# Altium footprint library GOSTOpto.PcbLib: 8 footprints
Each footprint in its own frame and in the unit in brackets; x right, y up, seen from the top. Pads: shape width x height; smd on the part's side, far side on the other; paste and mask are expansions set on the pad; w line width, h text height; cw(c..) or ccw(c..) is an arc to the next point about the centre after c.
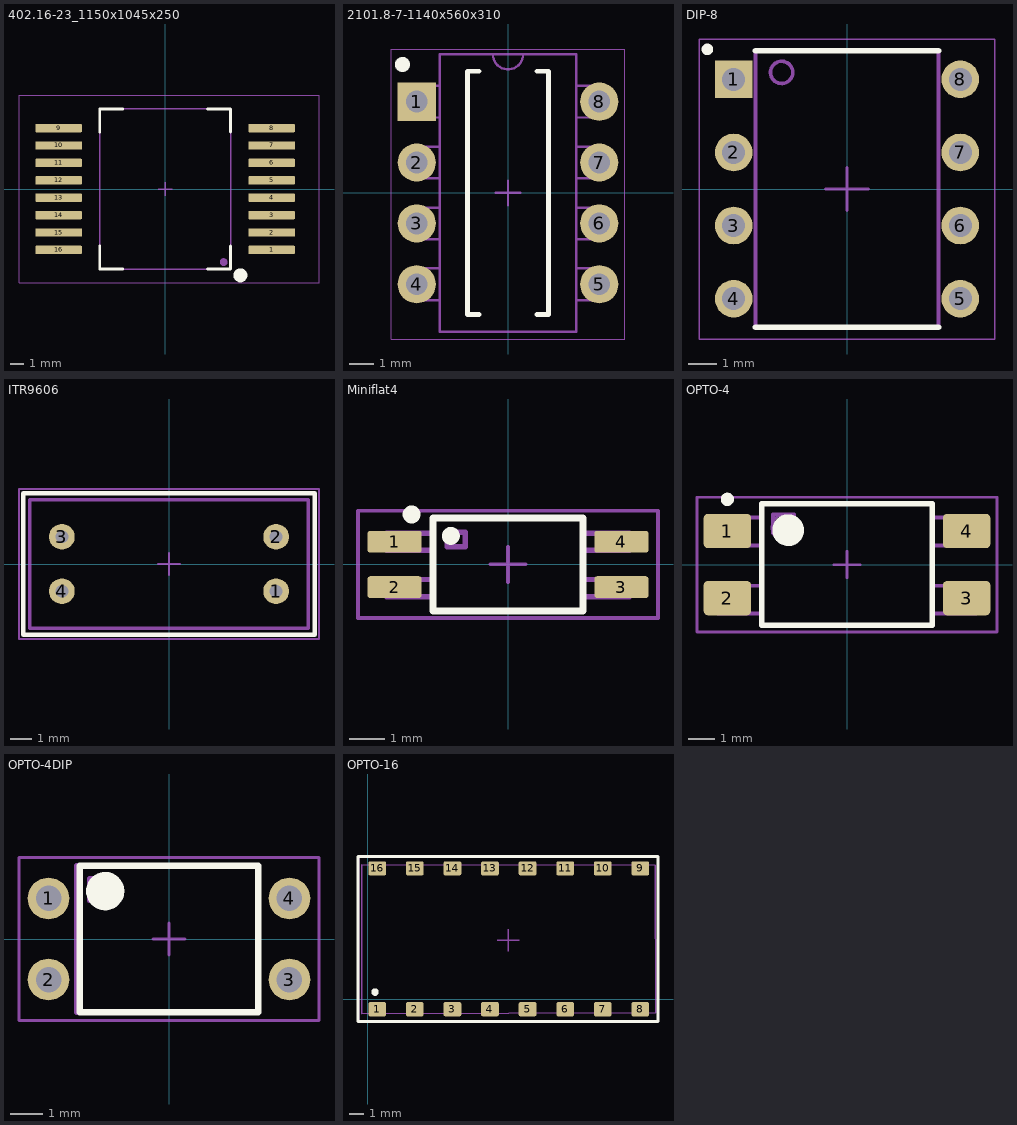
[diagram p0: the footprints below, top view; thin cyan lines are the x and y axes]

## 402.16-23_1150x1045x250 [mm]
height 2.5
pads (16):
  rrect25% 3.35x0.6 smd paste-0.025 mask+0.1: 1(7.65,-4.375) 2(7.65,-3.125) 3(7.65,-1.875) 4(7.65,-0.625) 5(7.65,0.625) 6(7.65,1.875) 7(7.65,3.125) 8(7.65,4.375) 9(-7.65,4.375) 10(-7.65,3.125) 11(-7.65,1.875) 12(-7.65,0.625) 13(-7.65,-0.625) 14(-7.65,-1.875) 15(-7.65,-3.125) 16(-7.65,-4.375)
Top Overlay:
  circle w0.6: c5.4,-6.2 r0.2
  lines w0.2: -4.7,-4.099 -4.7,-5.75 -3.049,-5.75 ; -4.7,4.099 -4.7,5.75 -3.049,5.75 ; 3.049,-5.75 4.7,-5.75 4.7,-4.099 ; 3.049,5.75 4.7,5.75 4.7,4.099
Mechanical 6:
  text ".Comment" at -1.551,-0.539 h1.2
Mechanical 9:
  text ".Designator" at -2.112,0.442 h1.5
Mechanical 11:
  circle w0.3: c4.2,-5.25 r0.127
  lines w0.1: -4.7,-5.75 4.7,-5.75 4.7,5.75 -4.7,5.75 -4.7,-5.75
Mechanical 15:
  lines w0.05: -10.5,-6.75 11.049,-6.75 11.049,6.75 -10.5,6.75 -10.5,-6.75
  lines w0.1: -0.5,0 0.5,0 ; 0,-0.5 0,0.5
3D body "User Library-402_16.STEP": height 2.51, standoff 0, extent -7.25,-5.75 7.25,5.75

## 2101.8-7-1140x560x310 [mm]
height 3.1
pads (8):
  rect 1.57x1.57 hole 0.9: 1(-3.75,3.75)
  round 1.57 hole 0.9: 2(-3.75,1.25) 3(-3.75,-1.25) 4(-3.75,-3.75) 5(3.75,-3.75) 6(3.75,-1.25) 7(3.75,1.25) 8(3.75,3.75)
Top Overlay:
  circle w0.6: c-4.34,5.279 r0.01
  lines w0.2: -1.199,-5 -1.665,-5 -1.665,5 -1.199,5 ; 1.199,-5 1.665,-5 1.665,5 1.199,5
Mechanical 6:
  text ".Comment" at 1.016,-1.651 h1.2
Mechanical 9:
  text ".Designator" at -0.381,-2.286 h1.5
Mechanical 11:
  lines w0.1: -2.8,-4.4 -3.9,-4.4 -3.9,-3.1 -2.8,-3.1 ; -2.8,-1.9 -3.9,-1.9 -3.9,-0.6 -2.8,-0.6 ; -2.8,0.6 -3.9,0.6 -3.9,1.9 -2.8,1.9 ; -2.8,3.1 -3.9,3.1 -3.9,4.4 -2.8,4.4 ; -0.625,5.7 ccw(c0,5.7) 0.625,5.7 ; 2.8,-4.4 3.9,-4.4 3.9,-3.1 2.8,-3.1 ; 2.8,-1.9 3.9,-1.9 3.9,-0.6 2.8,-0.6 ; 2.8,0.6 3.9,0.6 3.9,1.9 2.8,1.9 ; 2.8,3.1 3.9,3.1 3.9,4.4 2.8,4.4 ; -2.8,-5.7 2.8,-5.7 2.8,5.7 -2.8,5.7 -2.8,-5.7
Mechanical 15:
  lines w0.05: -4.8,-6 4.8,-6 4.8,5.9 -4.8,5.9 -4.8,-6
  lines w0.1: -0.5,0 0.5,0 ; 0,-0.5 0,0.5
3D body "User Library-2101_8-7.step": height 5, standoff -2.2, extent -3.91,-4.925 3.91,5.075

## DIP-8 [mm]
pads (8):
  rect 1.308x1.308 hole 0.8: 1(-3.935,3.81)
  round 1.308 hole 0.8: 2(-3.935,1.27) 3(-3.935,-1.27) 4(-3.935,-3.81) 5(3.935,-3.81) 6(3.935,-1.27) 7(3.935,1.27) 8(3.935,3.81)
Top Overlay:
  circle w0.2: c-4.85,4.85 r0.1
  lines w0.2: -3.18,-4.8 3.18,-4.8 ; -3.18,4.8 3.18,4.8
Mechanical 7:
  circle w0.127: c-2.27,4.05 r0.386
  lines w0.127: -3.18,-4.8 -3.18,4.8 ; 3.18,-4.8 3.18,4.8
Mechanical 9:
  text ".Designator" at -4.5,6.5 h3
Mechanical 10:
  text ".Comment" at -2.5,-7 h2
Mechanical 15:
  lines w0.05: -5.13,-5.21 5.13,-5.21 5.13,5.21 -5.13,5.21 -5.13,-5.21
  lines w0.1: -0.75,0 0.75,0 ; 0,-0.75 0,0.75
3D body "User Library-DIP-8-1.step": height 4.36, standoff -3, extent -3.935,-4.7 3.935,4.7

## ITR9606 [mm]
height 3.7
pads (4):
  round 1.2 hole 0.6: 1(5,-1.27) 2(5,1.27) 3(-5,1.27) 4(-5,-1.27)
Top Overlay:
  lines w0.2: -6.8,-3.3 -6.8,3.3 6.8,3.3 6.8,-3.3 -6.8,-3.3
Mechanical 7:
  lines w0.15: -6.5,-3 -6.5,3 6.5,3 6.5,-3 -6.5,-3
Mechanical 9:
  text ".Designator" at -5.1,4.2 h3
Mechanical 10:
  text ".Comment" at -3.6,-5.1 h2
Mechanical 15:
  lines w0.1: -0.5,0 0.5,0 ; 0,-0.5 0,0.5 ; -7,-3.5 -7,3.5 7,3.5 7,-3.5 -7,-3.5
3D body "ITR9606.STEP": height 10, standoff -10, extent -6.475,-3.025 6.525,2.975

## Miniflat4 [mm] "SOP, 4-Leads, Body 4,58x6,50mm, Pitch 2,54mm, IPC Medium Density"
height 3.7
pads (4):
  rrect25% 1.52x0.61 smd: 1(-3.175,0.635) 2(-3.175,-0.635) 3(3.175,-0.635) 4(3.175,0.635)
Top Overlay:
  circle w0.25: c-2.7,1.4 r0.125
  circle w0.25: c-1.6,0.8 r0.125
  lines w0.2: -2.1,-1.3 2.1,-1.3 2.1,1.3 -2.1,1.3 -2.1,-1.3
Mechanical 7:
  lines w0.15: -2.1,-0.9 -3.4,-0.9 -3.4,-0.422 -2.091,-0.422 ; -2.1,0.4 -3.4,0.4 -3.4,0.878 -2.091,0.878 ; 2.091,-0.422 3.4,-0.422 3.4,-0.9 2.1,-0.9 ; 2.091,0.878 3.4,0.878 3.4,0.4 2.1,0.4 ; -2.1,-1.3 2.1,-1.3 2.1,1.3 -2.1,1.3 -2.1,-1.3 ; -1.7,0.5 -1.7,0.9 -1.2,0.9 -1.2,0.5 -1.7,0.5
Mechanical 9:
  text ".Designator" at -4.826,3.302 h3
Mechanical 10:
  text ".Comment" at -2.921,-4.191 h2
Mechanical 15:
  lines w0.1: -0.5,0 0.5,0 ; 0,-0.5 0,0.5 ; -4.2,-1.5 4.2,-1.5 4.2,1.5 -4.2,1.5 -4.2,-1.5
3D body "User Library-ACPL-217.step": height 2.1, standoff -0.02, extent -3.475,-1.325 3.525,1.275

## OPTO-4 [mm] "SOP, 4-Leads, Body 4,58x6,50mm, Pitch 2,54mm, IPC Medium Density"
height 3.7
pads (4):
  rrect25% 1.8x1.3 smd: 1(-4.525,1.27) 2(-4.525,-1.27) 3(4.525,-1.27) 4(4.525,1.27)
Top Overlay:
  circle w0.25: c-4.525,2.47 r0.125
  circle w0.6: c-2.225,1.3 r0.3
  lines w0.2: -3.225,-2.3 -3.225,2.3 3.225,2.3 3.225,-2.3 -3.225,-2.3
Mechanical 7:
  lines w0.15: -3.225,-1.856 -4.878,-1.856 -4.878,-0.8 -3.216,-0.8 ; -3.225,0.722 -4.878,0.722 -4.878,1.778 -3.216,1.778 ; 3.216,-0.8 4.878,-0.8 4.878,-1.856 3.225,-1.856 ; 3.216,1.778 4.878,1.778 4.878,0.722 3.225,0.722 ; -3.216,-2.3 -3.216,2.3 3.225,2.3 3.225,-2.3 -3.216,-2.3 ; -2.8,1.2 -2,1.2 -2,1.9 -2.8,1.9 -2.8,1.2
Mechanical 9:
  text ".Designator" at -4.826,3.302 h3
Mechanical 10:
  text ".Comment" at -2.921,-4.191 h2
Mechanical 11:
  circle w0.1: c-2.35,1.4 r0.5
  lines w0.1: -3.25,-2.3 -3.25,2.3 3.25,2.3 3.25,-2.3 -3.25,-2.3
Mechanical 15:
  lines w0.1: -0.5,0 0.5,0 ; 0,-0.5 0,0.5 ; -5.675,-2.55 -5.675,2.55 5.675,2.55 5.675,-2.55 -5.675,-2.55
3D body "User Library-KB817-B.STEP": height 3.75, standoff -0.07, extent -4.915,-2.315 4.965,2.265

## OPTO-4DIP [mm] "SOP, 4-Leads, Body 4,58x6,50mm, Pitch 2,54mm, IPC Medium Density"
height 3.7
pads (4):
  round 1.308 hole 0.8: 1(-3.775,1.27) 2(-3.775,-1.27) 3(3.775,-1.27) 4(3.775,1.27)
Top Overlay:
  circle w0.6: c-2,1.5 r0.3
  lines w0.2: -2.8,-2.3 -2.8,2.3 2.8,2.3 2.8,-2.3 -2.8,-2.3
Mechanical 7:
  lines w0.15: -2.9,-2.3 -2.9,2.3 2.8,2.3 2.8,-2.3 -2.9,-2.3 ; -2.5,1.2 -1.7,1.2 -1.7,1.9 -2.5,1.9 -2.5,1.2
Mechanical 9:
  text ".Designator" at -4.826,3.302 h3
Mechanical 10:
  text ".Comment" at -2.921,-4.191 h2
Mechanical 15:
  lines w0.1: -0.5,0 0.5,0 ; 0,-0.5 0,0.5 ; -4.7,-2.55 -4.7,2.55 4.7,2.55 4.7,-2.55 -4.7,-2.55
3D body "User Library-DIP-4.step": height 4.8, standoff -2.5, extent -3.931,-2.28 3.94,2.3

## OPTO-16 [mm]
pads (16):
  rrect25% 1.2x0.96 smd: 1(0.651,-0.658) 2(3.191,-0.658) 3(5.731,-0.658) 4(8.271,-0.658) 5(10.811,-0.658) 6(13.351,-0.658) 7(15.891,-0.658) 8(18.431,-0.658) 9(18.431,8.862) 10(15.891,8.862) 11(13.351,8.862) 12(10.811,8.862) 13(8.271,8.862) 14(5.731,8.862) 15(3.191,8.862) 16(0.651,8.862)
Top Overlay:
  circle w0.254: c0.5,0.5 r0.125
  lines w0.2: -0.65,-1.5 19.625,-1.5 19.625,9.675 -0.65,9.675 -0.65,-1.5
Mechanical 9:
  text ".Designator" at 4.318,10.414 h3
Mechanical 10:
  text ".Comment" at 5.588,-3.175 h2
Mechanical 11:
  lines w0.1: -0.4,-0.95 -0.4,9.1 19.425,9.075 19.475,-0.9 -0.4,-0.95
Mechanical 15:
  lines w0.05: -0.55,-1.45 -0.55,9.625 19.625,9.625 19.625,-1.45 -0.55,-1.45
  lines w0.1: 8.75,4 10.25,4 ; 9.5,3.25 9.5,4.75
3D body "KB847-B.STEP": height 3.85, standoff 0.03, extent -0.36,-0.907 19.46,9.093